# Altium footprint library wol.PcbLib: 17 footprints (part 1 of 2)
Each footprint in its own frame and in the unit in brackets; x right, y up, seen from the top. Pads: shape width x height; smd on the part's side, far side on the other; paste and mask are expansions set on the pad; w line width, h text height; cw(c..) or ccw(c..) is an arc to the next point about the centre after c.
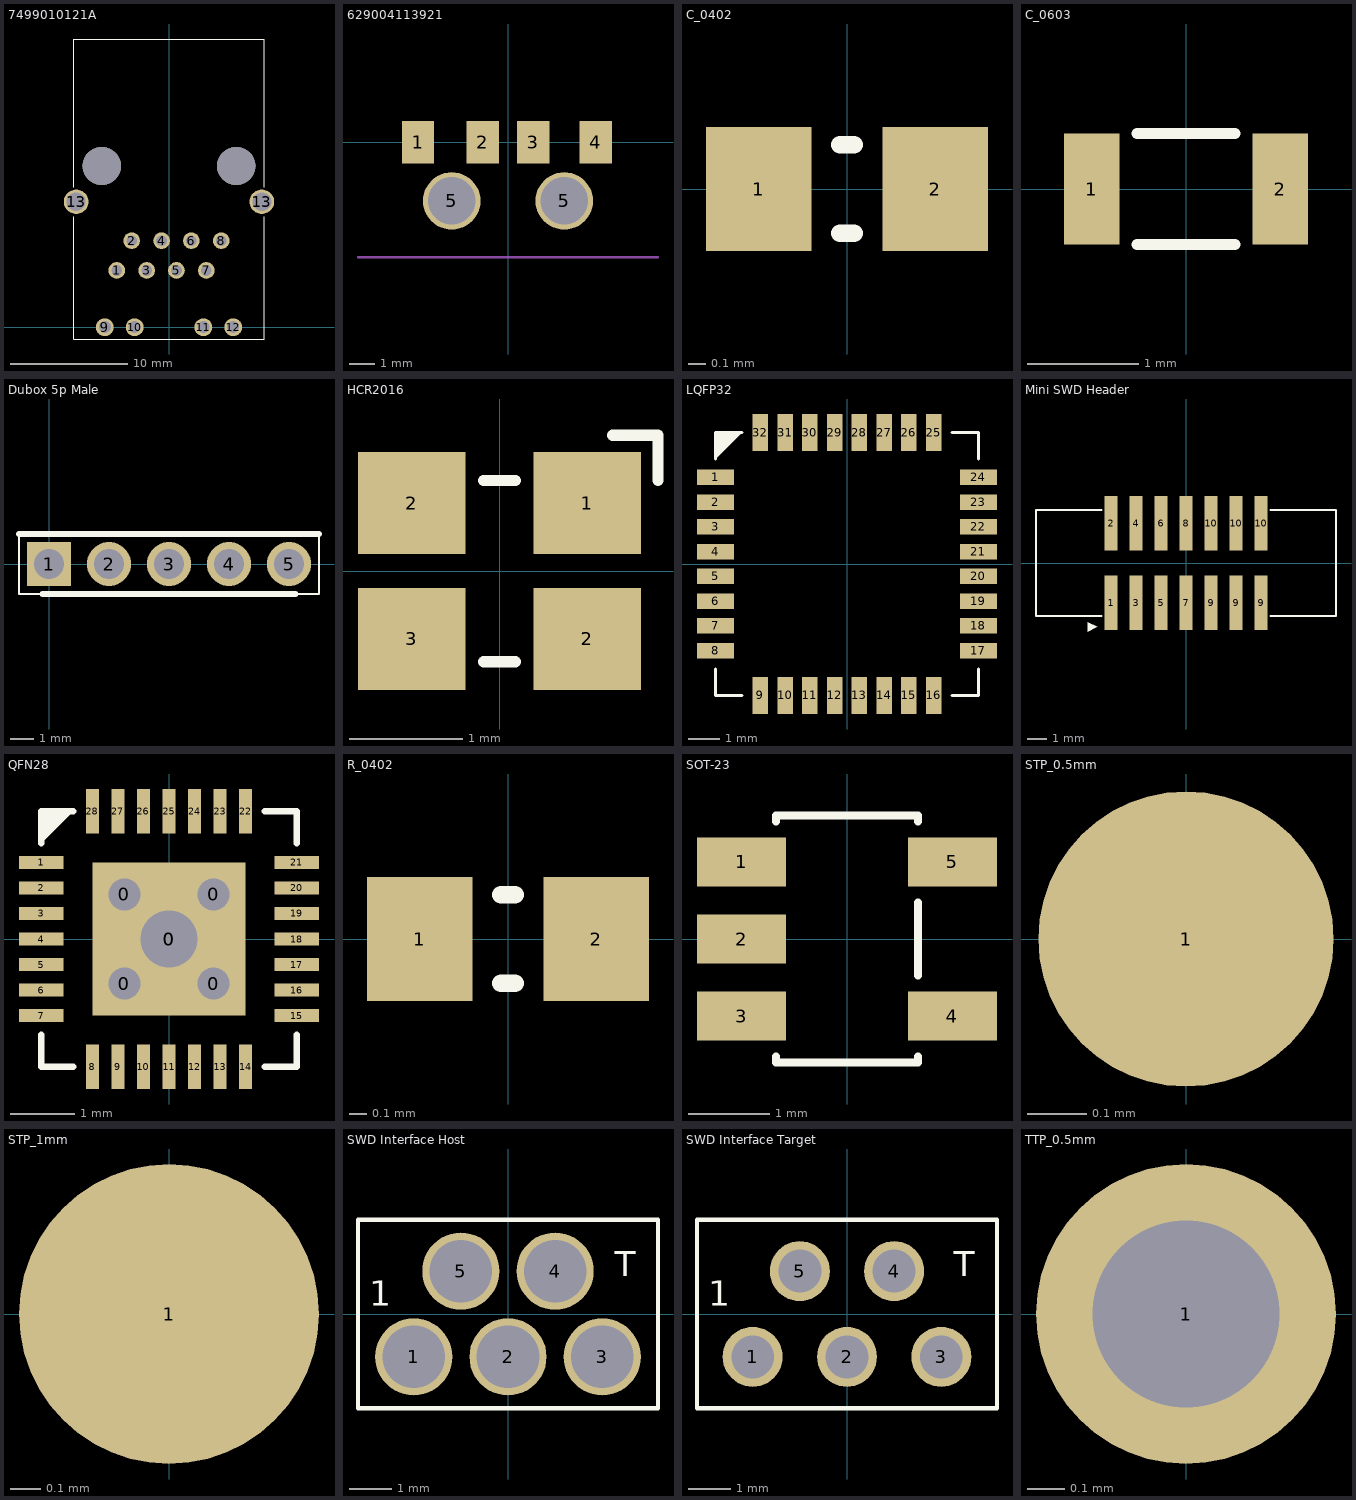
[diagram p0: the footprints below, top view; thin cyan lines are the x and y axes]

## 7499010121A [mm]
pads (16):
  round 1.42 hole 0.9: 1(-4.445,4.83) 2(-3.175,7.37) 3(-1.905,4.83) 4(-0.635,7.37) 5(0.635,4.83) 6(1.905,7.37) 7(3.175,4.83) 8(4.445,7.37)
  round 1.52 hole 1.02: 9(-5.465,0) 10(-2.925,0) 11(2.925,0) 12(5.465,0)
  round 2.1 hole 1.6: 13(-7.9,10.67) 13(7.9,10.67)
  round 3.25 hole 3.25 unplated: ""(-5.715,13.72) ""(5.715,13.72)
Top Overlay:
  lines w0.1: -8.1,9.4 -8.1,-1 8.1,-1 8.1,9.4 ; -8.1,11.9 -8.1,24.52 8.1,24.52 8.1,11.9
3D body "7499010121A_rev1.stp": height 13.56, standoff -3.84, extent -8.2,-0.75 8.2,24.55

## 629004113921 [mm]
pads (6):
  rect 1.3x1.7 smd: 1(-3.6,0) 2(-1,0) 3(1,0) 4(3.5,0)
  round 2.3 hole 1.9: 5(-2.25,-2.35) 5(2.25,-2.35)
Mechanical 1:
  lines w0.1: -6,-4.6 6,-4.6
3D body "629004113921.stp": height 2.25, standoff -2.25, extent -6,-19.575 6,0.225

## C_0402 [mm]
pads (2):
  rect 0.6x0.7 smd: 1(-0.5,0) 2(0.5,0)
Top Overlay:
  lines w0.1: -0.04,-0.25 0.04,-0.25 ; -0.04,0.25 0.04,0.25
3D body "GRT1555C1E120JA02D.STEP": height 0.5, standoff 0, extent -0.5,-0.25 0.5,0.3

## C_0603 [mm]
pads (2):
  rect 0.5x1 smd: 1(-0.85,0) 2(0.85,0)
Top Overlay:
  lines w0.1: -0.44,-0.5 0.44,-0.5 ; -0.44,0.5 0.44,0.5
3D body "GRM188R60J226MEA0J.STEP": height 0.8, standoff 0, extent -0.8,-0.5 0.8,0.5

## Dubox 5p Male [mm]
pads (5):
  rect 1.87x1.87 hole 1.27: 1(0,0)
  round 1.87 hole 1.27: 2(2.54,0) 3(5.08,0) 4(7.62,0) 5(10.16,0)
Top Overlay:
  lines w0.1: -1.27,1.27 -1.27,-1.27 11.43,-1.27 11.43,1.27
  lines w0.25: -1.27,1.27 11.43,1.27 ; -0.27,-1.27 10.43,-1.27
3D body "76384-305LFc.stp": height 8.84, standoff -3.93, extent -0.74,-2.559 10.96,2.69

## HCR2016 [mm]
pads (4):
  rect 0.95x0.9 smd: 1(0.775,0.6) 2(-0.775,0.6) 2(0.775,-0.6) 3(-0.775,-0.6)
Top Overlay:
  lines w0.1: -0.14,-0.8 0.14,-0.8 ; -0.14,0.8 0.14,0.8 ; 1,1.2 1.4,1.2 1.4,0.8
3D body "XRCGB32M000F0L00R0.STEP": height 0.7, standoff 0, extent -1,-0.8 1,0.8

## LQFP32 [mm]
pads (32):
  rect 1.2x0.5 smd: 1(-4.25,2.8) 2(-4.25,2) 3(-4.25,1.2) 4(-4.25,0.4) 5(-4.25,-0.4) 6(-4.25,-1.2) 7(-4.25,-2) 8(-4.25,-2.8) 17(4.25,-2.8) 18(4.25,-2) 19(4.25,-1.2) 20(4.25,-0.4) 21(4.25,0.4) 22(4.25,1.2) 23(4.25,2) 24(4.25,2.8)
  rect 0.5x1.2 smd: 9(-2.8,-4.25) 10(-2,-4.25) 11(-1.2,-4.25) 12(-0.4,-4.25) 13(0.4,-4.25) 14(1.2,-4.25) 15(2,-4.25) 16(2.8,-4.25) 25(2.8,4.25) 26(2,4.25) 27(1.2,4.25) 28(0.4,4.25) 29(-0.4,4.25) 30(-1.2,4.25) 31(-2,4.25) 32(-2.8,4.25)
Top Overlay:
  region: -4.25,4.25 -3.4,4.25 -4.25,3.4
  lines w0.1: -4.25,-3.4 -4.25,-4.25 -3.4,-4.25 ; -4.25,3.4 -4.25,4.25 -3.4,4.25 ; 3.4,-4.25 4.25,-4.25 4.25,-3.4 ; 3.4,4.25 4.25,4.25 4.25,3.4
3D body "LQFP-32.step": height 1.6, standoff 0, extent -4.496,-4.496 4.496,4.496

## Mini SWD Header [mm]
pads (14):
  rect 0.65x2.77 smd: 1(-3.81,-2.015) 2(-3.81,2.015) 3(-2.54,-2.015) 4(-2.54,2.015) 5(-1.27,-2.015) 6(-1.27,2.015) 7(0,-2.015) 8(0,2.015) 9(1.27,-2.015) 9(2.54,-2.015) 9(3.81,-2.015) 10(1.27,2.015) 10(2.54,2.015) 10(3.81,2.015)
Top Overlay:
  region: -5,-3.5 -4.5,-3.25 -5,-3
  lines w0.1: -4.3,-2.7 -7.62,-2.7 -7.62,2.7 -4.3,2.7 ; 4.3,-2.7 7.62,-2.7 7.62,2.7 4.3,2.7
3D body "3220-14-0300-00 3D.stp": height 5.1, standoff -0.1, extent -7.62,-2.75 7.62,2.75

## QFN28 [mm]
pads (34):
  round 0.6 hole 0.5: 0(-0.7,-0.7) 0(-0.7,0.7) 0(0.7,-0.7) 0(0.7,0.7)
  rect 2.4x2.4 smd: 0(0,0)
  round 1.6 hole 0.9: 0(0,0)
  rect 0.7x0.2 smd: 1(-2,1.2) 2(-2,0.8) 3(-2,0.4) 4(-2,0) 5(-2,-0.4) 6(-2,-0.8) 7(-2,-1.2) 15(2,-1.2) 16(2,-0.8) 17(2,-0.4) 18(2,0) 19(2,0.4) 20(2,0.8) 21(2,1.2)
  rect 0.2x0.7 smd: 8(-1.2,-2) 9(-0.8,-2) 10(-0.4,-2) 11(0,-2) 12(0.4,-2) 13(0.8,-2) 14(1.2,-2) 22(1.2,2) 23(0.8,2) 24(0.4,2) 25(0,2) 26(-0.4,2) 27(-0.8,2) 28(-1.2,2)
Top Overlay:
  region: -2,1.5 -2,2 -1.5,2
  lines w0.1: -2,-1.5 -2,-2 -1.5,-2 ; -2,1.5 -2,2 -1.5,2 ; 1.5,-2 2,-2 2,-1.5 ; 1.5,2 2,2 2,1.5
3D body "QFN-28-1EP_4x4mm_P0.4mm_EP2.4x2.4mm.step": height 0.77, standoff 0, extent -2,-2 2,2

## R_0402 [mm]
pads (2):
  rect 0.6x0.7 smd: 1(-0.5,0) 2(0.5,0)
Top Overlay:
  lines w0.1: -0.04,-0.25 0.04,-0.25 ; -0.04,0.25 0.04,0.25
3D body "ERJ-2RKF4701X.STEP": height 0.35, standoff 0, extent -0.5,-0.25 0.5,0.25

## SOT-23 [mm]
pads (5):
  rect 1.1x0.6 smd: 1(-1.3,0.95) 2(-1.3,0) 3(-1.3,-0.95) 4(1.3,-0.95) 5(1.3,0.95)
Top Overlay:
  lines w0.1: -0.875,-1.45 -0.875,-1.525 0.875,-1.525 0.875,-1.45 ; -0.875,1.45 -0.875,1.525 0.875,1.525 0.875,1.45 ; 0.875,-0.45 0.875,0.45
3D body "TLV74033PDBVR.STEP": height 1.45, standoff 0, extent -1.4,-1.45 1.4,1.45

## STP_0.5mm [mm]
pads (1):
  round 0.5 smd: 1(0,0)

## STP_1mm [mm]
pads (1):
  round 1 smd: 1(0,0)

## SWD Interface Host [mm]
pads (5):
  round 1.8 hole 1.46: 1(-2.2,-1) 2(0,-1) 3(2.2,-1) 4(1.1,1) 5(-1.1,1)
Top Overlay:
  lines w0.1: -3.5,-2.2 -3.5,2.2 3.5,2.2 3.5,-2.2 -3.5,-2.2
  text "1" at -3.236,0 h1
  text "T" at 2.493,0.68 h1
Bottom Overlay:
  lines w0.1: -3.5,-2.2 3.5,-2.2 3.5,2.2 -3.5,2.2 -3.5,-2.2
  text "B" at 2.516,0.68 h1
  text "1" at -3.236,0 h1

## SWD Interface Target [mm]
pads (5):
  round 1.4 hole 1: 1(-2.2,-1) 2(0,-1) 3(2.2,-1) 4(1.1,1) 5(-1.1,1)
Top Overlay:
  lines w0.1: -3.5,-2.2 3.5,-2.2 3.5,2.2 -3.5,2.2 -3.5,-2.2
  text "T" at 2.493,0.68 h1
  text "1" at -3.236,0 h1
Bottom Overlay:
  lines w0.1: -3.5,-2.2 -3.5,2.2 3.5,2.2 3.5,-2.2 -3.5,-2.2
  text "1" at -3.236,0 h1
  text "B" at 2.516,0.68 h1

## TTP_0.5mm [mm]
pads (1):
  round 0.8 hole 0.5: 1(0,0)